# EAGLE library part JAE-SD (library balto)
SD Card and MMC Reader (Manual Insertion) Source: http://www.yamaichi.de/pdf/c_fps009_3000.pdf
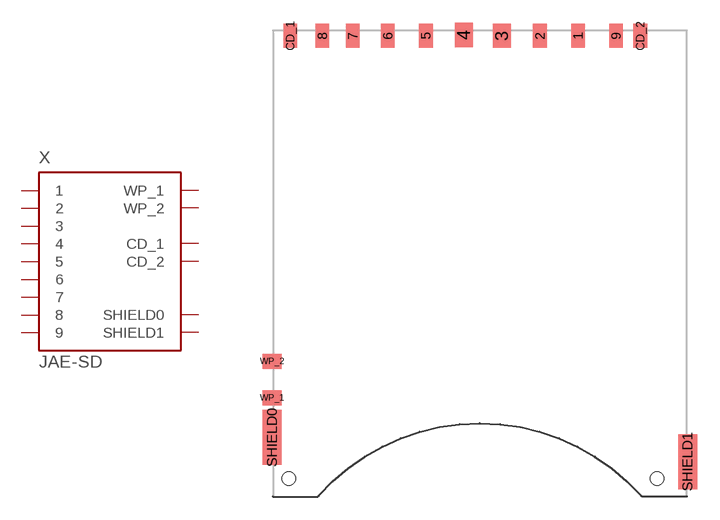
[diagram p3: symbol with the pads of JAE-SD; footprint JAE-SD]

Designator prefix X

## JAE-SD  [JAE-SD]
1  1  in
2  2  in
3  3  in
4  4  in
5  5  in
6  6  in
7  7  in
8  8  in
9  9  in
CD_1  CD_1  in
CD_2  CD_2  in
SHIELD0  SHIELD0  in
SHIELD1  SHIELD1  in
WP_1  WP_1  in
WP_2  WP_2  in

## Footprint JAE-SD (pad centres in mm)
SD Card and MMC Reader (Manual Insertion) Source: http://www.yamaichi.de/pdf/c_fps009_3000.pdf
smd 0.9 x 1.6: 1 6.9,-0.8; 2 4.4,-0.8; 5 -3.1,-0.8; 6 -5.6,-0.8; 7 -7.9,-0.8; 8 -9.9,-0.8; 9 9.4,-0.8; CD_1 -12,-0.8; CD_2 11,-0.8
smd 1.2 x 1.6: 3 1.9,-0.8; 4 -0.6,-0.75
smd 1.25 x 3.6: SHIELD0 -13.2,-27.2; SHIELD1 14.1,-28.8
smd 1.25 x 1: WP_1 -13.2,-24.6; WP_2 -13.2,-22.2
hole 0.9 at 12.1,-29.9
hole 0.9 at -12.1,-29.9